# Altium footprint library NRF24L01_PA_LN_BOARD.PcbLib: 1 footprints
Each footprint in its own frame and in the unit in brackets; x right, y up, seen from the top. Pads: shape width x height; smd on the part's side, far side on the other; paste and mask are expansions set on the pad; w line width, h text height; cw(c..) or ccw(c..) is an arc to the next point about the centre after c.
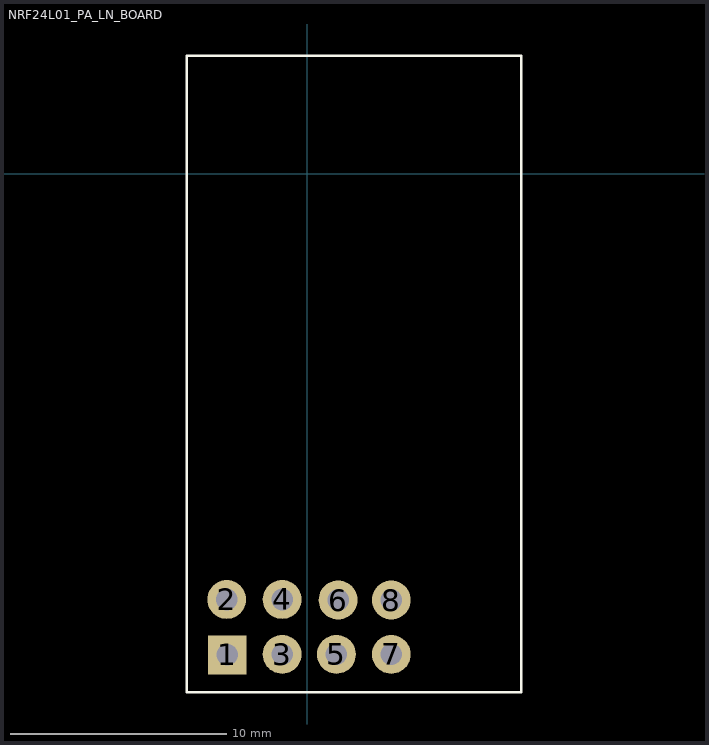
[diagram p0: the footprint, top view; thin cyan lines are the x and y axes]

## NRF24L01_PA_LN_BOARD [mm] "NRF24L01 with antena"
height 3
pads (8):
  rect 1.8x1.8 hole 1: 1(-3.708,-22.276)
  round 1.8 hole 1: 2(-3.734,-19.71) 3(-1.168,-22.25) 4(-1.168,-19.71) 5(1.346,-22.25) 6(1.422,-19.736) 7(3.886,-22.25) 8(3.886,-19.736)
Top Overlay:
  lines w0.127: -5.588,-24.003 9.906,-24.003 9.906,5.461 -5.588,5.461 -5.588,-24.003
3D body "NRF24L01.STEP": height 11, standoff -1.45, extent -5.341,-23.749 9.659,5.251